# Altium schematic symbol library LM43602PWPT.SchLib: 1 symbol
Pins are listed as number, name and electrical type; pins without a type are passive.

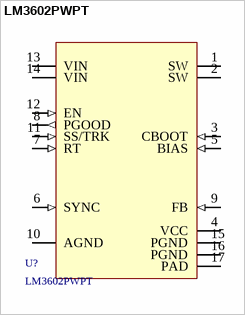
[diagram p0: symbol LM3602PWPT]

## LM3602PWPT
designator U?
MPN: LM43602PWPT; Manufacturer: Texas Instruments; Farnell: 2425776
footprint HTSSOP65P640X120_HS-17N (TSOP, 16-Leads, Body 5,00x4,40mm, Pitch 0,65mm, Thermal Pad 3,29x2,41mm, IPC Medium Density)
pins: 1 SW (power), 2 SW (power), 3 CBOOT (in), 4 VCC (power), 5 BIAS (in), 6 SYNC (in), 7 RT (in), 8 PGOOD (out), 9 FB (in), 10 AGND (power), 11 SS/TRK (in), 12 EN (in), 13 VIN (power), 14 VIN (power), 15 PGND (power), 16 PGND (power), 17 PAD (power)